# Altium footprint library TINYMODULE-V3.PcbLib: 27 footprints (part 1 of 2)
Each footprint in its own frame and in the unit in brackets; x right, y up, seen from the top. Pads: shape width x height; smd on the part's side, far side on the other; paste and mask are expansions set on the pad; w line width, h text height; cw(c..) or ccw(c..) is an arc to the next point about the centre after c.
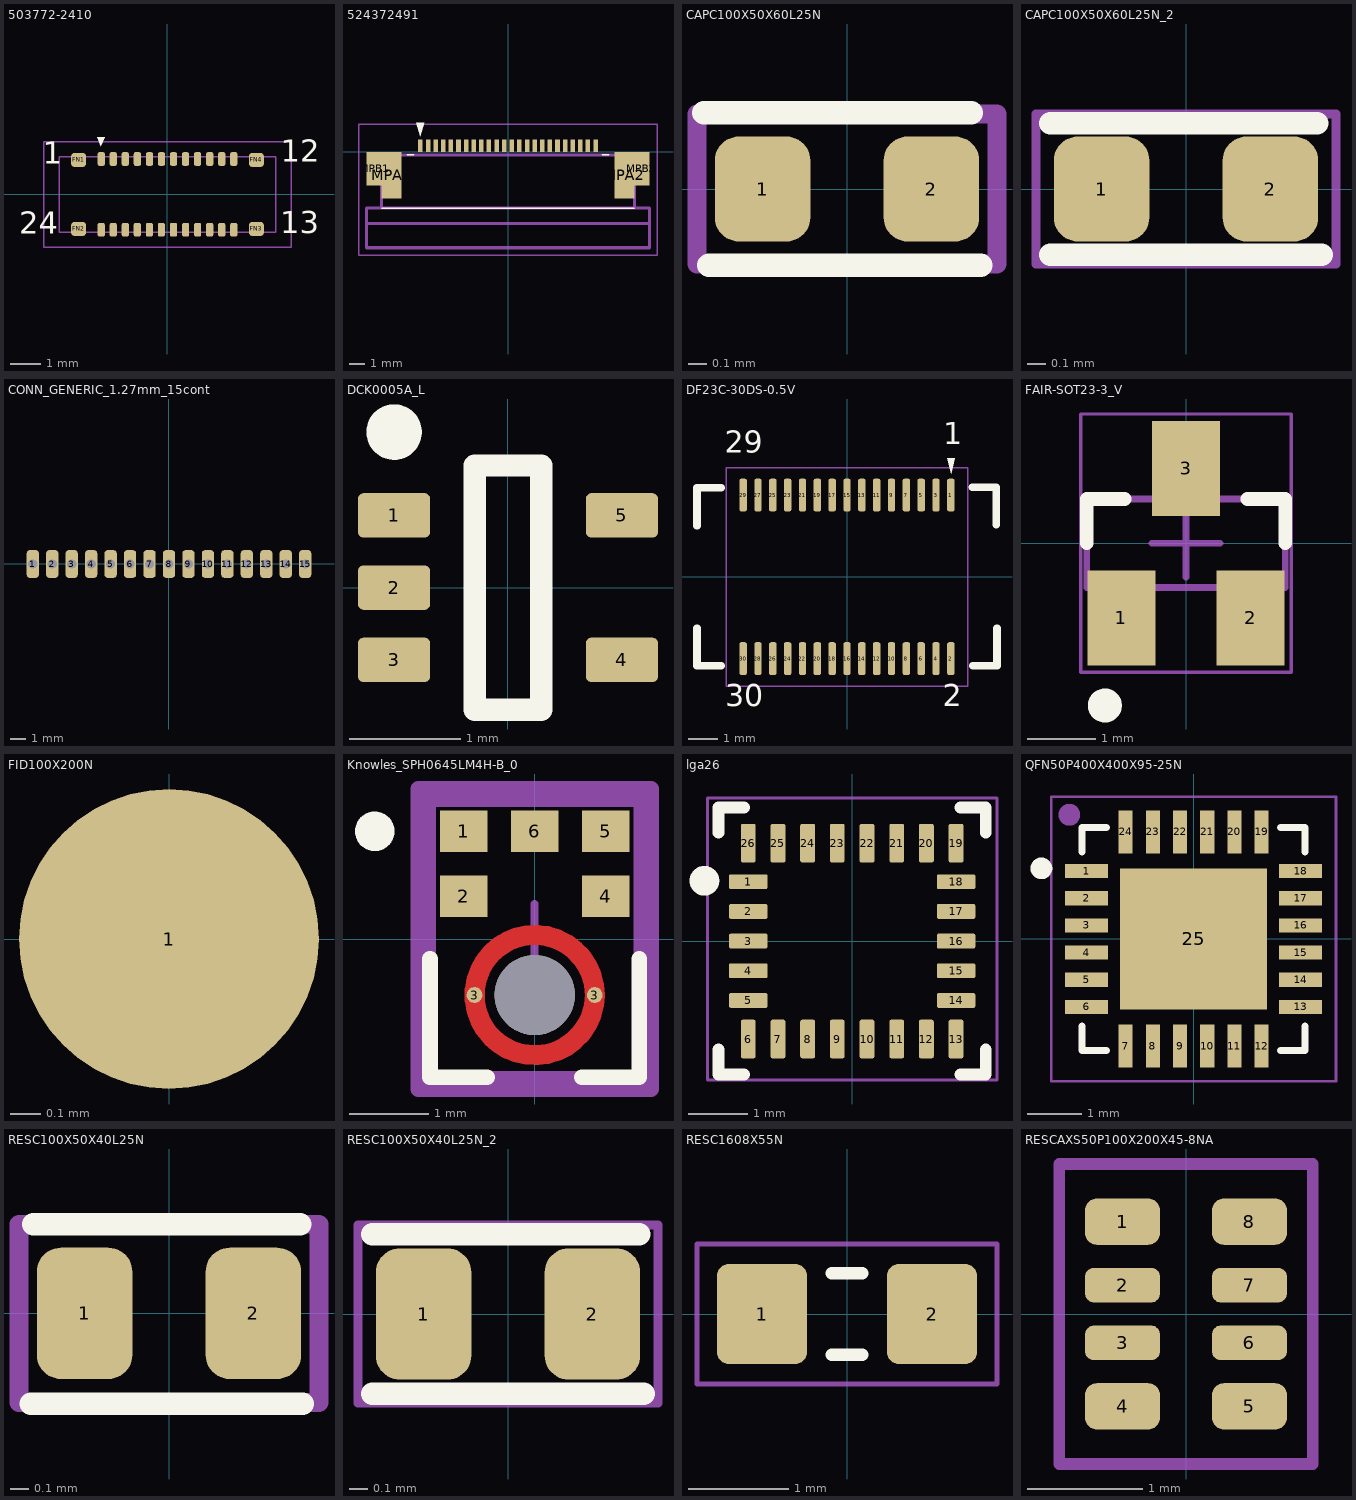
[diagram p0: the footprints below, top view; thin cyan lines are the x and y axes]

## 503772-2410 [mm]
pads (28):
  rrect50% 0.24x0.45 smd: 1(-2.2,1.175) 2(-1.8,1.175) 3(-1.4,1.175) 4(-1,1.175) 5(-0.6,1.175) 6(-0.2,1.175) 7(0.2,1.175) 8(0.6,1.175) 9(1,1.175) 10(1.4,1.175) 11(1.8,1.175) 12(2.2,1.175) 13(2.2,-1.175) 14(1.8,-1.175) 15(1.4,-1.175) 16(1,-1.175) 17(0.6,-1.175) 18(0.2,-1.175) 19(-0.2,-1.175) 20(-0.6,-1.175) 21(-1,-1.175) 22(-1.4,-1.175) 23(-1.8,-1.175) 24(-2.2,-1.175)
  rrect50% 0.5x0.47 smd: FN1(-2.95,1.145) FN2(-2.95,-1.145) FN3(2.95,-1.145) FN4(2.95,1.145)
Top Overlay:
  region: -2.21,1.6 -2.083,1.905 -2.337,1.905
  text "24" at -4.929,-1.549 h1.27
  text "13" at 3.751,-1.535 h1.27
  text "12" at 3.759,0.838 h1.27
  text "1" at -4.14,0.762 h1.27
Mechanical 1:
  lines w0.05: -3.6,-1.25 -3.6,1.25 3.6,1.25 3.6,-1.25 -3.6,-1.25
Mechanical 16:
  lines w0.05: -4.1,-1.75 4.1,-1.75 4.1,1.75 -4.1,1.75 -4.1,-1.75
  text ".Designator" at 0.55,0.22 h0.55
3D body "5037722410.stp": height 0.66, standoff 0, extent -3.6,-1.25 3.6,1.25

## 524372491 [mm]
pads (28):
  rect 0.3x0.8 smd: 1(-5.75,0.4) 2(-5.25,0.4) 3(-4.75,0.4) 4(-4.25,0.4) 5(-3.75,0.4) 6(-3.25,0.4) 7(-2.75,0.4) 8(-2.25,0.4) 9(-1.75,0.4) 10(-1.25,0.4) 11(-0.75,0.4) 12(-0.25,0.4) 13(0.25,0.4) 14(0.75,0.4) 15(1.25,0.4) 16(1.75,0.4) 17(2.25,0.4) 18(2.75,0.4) 19(3.25,0.4) 20(3.75,0.4) 21(4.25,0.4) 22(4.75,0.4) 23(5.25,0.4) 24(5.75,0.4)
  rect 1.3x3.05 smd: MPA1(-7.65,-1.525) MPA2(7.65,-1.525)
  rect 1.1x2.2 smd: MPB1(-8.75,-1.1) MPB2(8.75,-1.1)
Top Overlay:
  region: -5.766,1.029 -5.512,1.918 -6.02,1.918
  lines w0.1: -8.3,-3.7 8.3,-3.7 ; -6.6,-0.2 -6.2,-0.2 ; 6.2,-0.2 6.6,-0.2
Mechanical 13:
  lines w0.2: -9.3,-4.7 -9.3,-6.3 9.3,-6.3 9.3,-4.7 ; -9.3,-4.7 9.3,-4.7 ; -9.3,-4.7 -9.3,-3.7 9.3,-3.7 9.3,-4.7 ; -9.3,-4.7 9.3,-4.7 ; -8.3,-3.7 -8.3,-0.2 8.3,-0.2 8.3,-3.7 -8.3,-3.7
Mechanical 15:
  lines w0.1: -9.8,-6.8 -9.8,1.8 9.8,1.8 9.8,-6.8 -9.8,-6.8
3D body "52437-2491.stp": height 2.1, standoff 0, extent -9.3,-6.3 9.3,0.77

## CAPC100X50X60L25N [mm]
height 0.6
pads (2):
  rrect50% 0.51x0.56 smd mask+0.05: 1(-0.45,0) 2(0.45,0)
Top Overlay:
  lines w0.127: -0.762,0.406 0.663,0.406 ; -0.737,-0.406 0.713,-0.406
Mechanical 16:
  lines w0.1: -0.8,-0.4 0.8,-0.4 0.8,0.4 -0.8,0.4 -0.8,-0.4
  text ".Designator" at -2.343,-1.07 h0.8
3D body "C0402.STEP": height 0.36, standoff 0, extent -0.5,-0.265 0.5,0.265

## CAPC100X50X60L25N_2 [mm]
pads (2):
  rrect50% 0.51x0.56 smd mask+0.05: 1(-0.45,0) 2(0.45,0)
Top Overlay:
  lines w0.12: -0.725,-0.35 0.725,-0.35 ; -0.725,0.35 0.7,0.35
Mechanical 16:
  lines w0.05: -0.8,-0.4 -0.8,0.4 0.8,0.4 0.8,-0.4 -0.8,-0.4
  text ".Designator" at -0.7,-0.3 h0.55
3D body "C0402.STEP": height 0.36, standoff 0, extent -0.5,-0.265 0.5,0.265

## CONN_GENERIC_1.27mm_15cont [mm]
height 2.2
pads (15):
  rrect50% 0.8x1.8 / inner rrect50% 0x0 / far side rrect50% 0.65x1.8 hole 0.6: 1(-8.89,0) 2(-7.62,0) 3(-6.35,0) 4(-5.08,0) 5(-3.81,0) 6(-2.54,0) 7(-1.27,0) 8(0,0) 9(1.27,0) 10(2.54,0) 11(3.81,0) 12(5.08,0) 13(6.35,0) 14(7.62,0) 15(8.89,0)
Mechanical 16:
  text ".Designator" at 1.18,-0.6 h0.55

## DCK0005A_L [mm] "SOT23, 5-Leads, Body 2.15x1.4mm, Pitch 0.65mm, IPC High Density"
height 1.1
pads (5):
  rrect25% 0.65x0.4 smd: 1(-1.025,0.65) 2(-1.025,0) 3(-1.025,-0.65) 4(1.025,-0.65) 5(1.025,0.65)
Top Overlay:
  circle w0.25: c-1.025,1.4 r0.125
  lines w0.2: -0.3,-1.1 0.3,-1.1 0.3,1.1 -0.3,1.1 -0.3,-1.1
Mechanical 1:
  text ".Designator" at -0.635,-0.127 h0.3
3D body "DCK0005AakaMAA05A.stp": height 0.94, standoff -0.01, extent -1.14,-1 1.14,1

## DF23C-30DS-0.5V [mm]
pads (30):
  rrect50% 0.25x1.1 smd mask+0.055: 1(3.5,2.755) 2(3.5,-2.755) 3(3,2.755) 4(3,-2.755) 5(2.5,2.755) 6(2.5,-2.755) 7(2,2.755) 8(2,-2.755) 9(1.5,2.755) 10(1.5,-2.755) 11(1,2.755) 12(1,-2.755) 13(0.5,2.755) 14(0.5,-2.755) 15(0,2.755) 16(0,-2.755) 17(-0.5,2.755) 18(-0.5,-2.755) 19(-1,2.755) 20(-1,-2.755) 21(-1.5,2.755) 22(-1.5,-2.755) 23(-2,2.755) 24(-2,-2.755) 25(-2.5,2.755) 26(-2.5,-2.755) 27(-3,2.755) 28(-3,-2.755) 29(-3.5,2.755) 30(-3.5,-2.755)
Top Overlay:
  region: 3.505,3.48 3.632,3.988 3.378,3.988
  lines w0.254: -5.055,-1.727 -5.055,-2.997 -4.242,-2.997 ; -5.055,1.727 -5.055,2.997 -4.242,2.997 ; 4.216,3.023 5.029,3.023 5.029,1.753 ; 4.242,-2.997 5.055,-2.997 5.055,-1.727
  text "1" at 3.251,4.216 h1.27
  text "2" at 3.225,-4.623 h1.27
  text "29" at -4.116,3.926 h1.27
  text "30" at -4.096,-4.609 h1.27
Mechanical 16:
  lines w0.05: -4.064,-3.683 4.064,-3.683 4.064,3.683 -4.064,3.683 -4.064,-3.683
  text ".Designator" at -0.25,0.7 h0.8
3D body "DF23C-30DS-0.5V.stp": height 1.51, standoff 0.06, extent -5.05,-3 5.05,3

## FAIR-SOT23-3_V [mm] "SOT23, 3-Leads, Body 2.92x1.3mm, Pitch 0.95mm"
height 1.2
pads (3):
  rect 1x1.4 smd: 1(-0.95,-1.1) 2(0.95,-1.1) 3(0,1.1)
Top Overlay:
  circle w0.25: c-1.194,-2.388 r0.125
  lines w0.2: -1.46,0 -1.46,0.65 -0.9,0.65 ; 0.9,0.65 1.46,0.65 1.46,0
Mechanical 13:
  lines w0.1: -1.46,-0.65 1.46,-0.65 1.46,0.65 -1.46,0.65 -1.46,-0.65
Mechanical 15:
  lines w0.05: -1.55,-1.9 1.55,-1.9 1.55,1.9 -1.55,1.9 -1.55,-1.9
  lines w0.1: -0.5,0 0.5,0 ; 0,-0.5 0,0.5
3D body "SOT23-3 (2).step": height 1.1, standoff 0, extent -1.5,-1.25 1.5,1.25

## FID100X200N [mm]
height 0.8
pads (1):
  round 1 smd paste-0.51 mask+0.5: 1(0,0)

## Knowles_SPH0645LM4H-B_0 [mm]
pads (8):
  rect 0.6x0.522 smd paste+0 mask+0: 1(-0.9,1.364) 2(-0.9,0.542) 4(0.9,0.542) 5(0.9,1.364) 6(0,1.364)
  round 0.2 smd: 3(-0.762,-0.71) 3(0.762,-0.71)
  round 1.016 hole 1.016 unplated mask+0: ""(0,-0.71)
Top Layer:
  circle w0.254: c0,-0.71 r0.762
Top Overlay:
  circle w0.25: c-2.026,1.364 r0.125
  lines w0.2: -1.325,-0.25 -1.325,-1.75 -0.6,-1.75 ; 0.6,-1.75 1.325,-1.75 1.325,-0.25
Top Paste:
  circle w0.254: c0,-0.71 r0.762
Top Solder:
  circle w0.508: c0,-0.71 r0.762
Bottom Solder:
  circle w0.254: c0,-0.71 r0.635
Mechanical 12:
  lines w0.15: -1.325,-1.75 -1.325,1.75 1.325,1.75 1.325,-1.75 -1.325,-1.75
Mechanical 15:
  lines w0.1: -0.443,0 0.443,0 ; 0,-0.443 0,0.443
  lines w0.2: -1.475,-1.9 -1.475,1.9 1.475,1.9 1.475,-1.9 -1.475,-1.9
Mechanical 16:
  lines w0.2: -1.475,-1.9 -1.475,1.9 1.475,1.9 1.475,-1.9 -1.475,-1.9
  text ".Designator" at 0,0 h1
3D body "sph0645lm4h-b.stp": height 1.23, standoff 0.25, extent -1.325,-1.75 1.325,1.75

## lga26 [mm]
height 2.2
pads (26):
  rrect25% 0.65x0.25 smd: 1(-1.75,1) 2(-1.75,0.5) 3(-1.75,0) 4(-1.75,-0.5) 5(-1.75,-1) 14(1.75,-1) 15(1.75,-0.5) 16(1.75,0) 17(1.75,0.5) 18(1.75,1)
  rrect25% 0.25x0.65 smd: 6(-1.75,-1.65) 7(-1.25,-1.65) 8(-0.75,-1.65) 9(-0.25,-1.65) 10(0.25,-1.65) 11(0.75,-1.65) 12(1.25,-1.65) 13(1.75,-1.65) 19(1.75,1.65) 20(1.25,1.65) 21(0.75,1.65) 22(0.25,1.65) 23(-0.25,1.65) 24(-0.75,1.65) 25(-1.25,1.65) 26(-1.75,1.65)
Top Overlay:
  circle w0.25: c-2.489,1.016 r0.125
  lines w0.2: -2.25,-1.825 -2.25,-2.25 -1.825,-2.25 ; -2.25,1.825 -2.25,2.25 -1.825,2.25 ; 1.825,-2.25 2.25,-2.25 2.25,-1.825 ; 1.825,2.25 2.25,2.25 2.25,1.825
Mechanical 16:
  lines w0.05: -2.44,-2.34 -2.44,2.41 2.44,2.41 2.44,-2.34 -2.44,-2.34
  text ".Designator" at 0.32,-0.42 h0.55
3D body "cam.step": height 2.19, standoff 0, extent -2.05,-1.95 2.05,1.95

## QFN50P400X400X95-25N [mm]
pads (25):
  rect 0.79x0.26 smd: 1(-1.97,1.25) 2(-1.97,0.75) 3(-1.97,0.25) 4(-1.97,-0.25) 5(-1.97,-0.75) 6(-1.97,-1.25) 13(1.97,-1.25) 14(1.97,-0.75) 15(1.97,-0.25) 16(1.97,0.25) 17(1.97,0.75) 18(1.97,1.25)
  rect 0.26x0.79 smd: 7(-1.25,-1.97) 8(-0.75,-1.97) 9(-0.25,-1.97) 10(0.25,-1.97) 11(0.75,-1.97) 12(1.25,-1.97) 19(1.25,1.97) 20(0.75,1.97) 21(0.25,1.97) 22(-0.25,1.97) 23(-0.75,1.97) 24(-1.25,1.97)
  rect 2.7x2.6 smd: 25(0,0)
Top Overlay:
  circle w0.2: c-2.8,1.3 r0.1
  lines w0.127: -2.05,-1.6 -2.05,-2.05 -1.6,-2.05 ; -2.05,1.6 -2.05,2.05 -1.6,2.05 ; 1.6,-2.05 2.05,-2.05 2.05,-1.6 ; 1.6,2.05 2.05,2.05 2.05,1.6
Top Paste:
  region: -1.091,1.04 -0.13,1.04 -0.13,0.13 -1.091,0.13
  region: 0.13,1.04 1.09,1.04 1.09,0.13 0.13,0.13
  region: 0.13,-0.13 1.09,-0.13 1.09,-1.04 0.13,-1.04
  region: -1.091,-0.13 -0.13,-0.13 -0.13,-1.041 -1.091,-1.041
Mechanical 16:
  circle w0.2: c-2.286,2.286 r0.1
  lines w0.05: -2.62,-2.62 2.62,-2.62 2.62,2.62 -2.62,2.62 -2.62,-2.62
  text ".Designator" at 0.15,0.7 h0.55
3D body "QFN50P400X400X80-25N.STEP": height 0.8, standoff 0, extent -2.045,-2.045 2.045,2.045

## RESC100X50X40L25N [mm]
height 0.4
pads (2):
  rrect50% 0.51x0.7 smd mask+0.05: 1(-0.45,0) 2(0.45,0)
Top Overlay:
  lines w0.12: -0.737,-0.483 0.713,-0.483 ; -0.725,0.476 0.7,0.476
Mechanical 16:
  lines w0.1: -0.8,-0.475 -0.8,0.475 0.8,0.475 0.8,-0.475 -0.8,-0.475
  text ".Designator" at -1.2,0.2 h0.8
3D body "R0402.STEP": height 0.34, standoff 0, extent -0.52,-0.3 0.52,0.3

## RESC100X50X40L25N_2 [mm]
pads (2):
  rrect50% 0.51x0.7 smd mask+0.05: 1(-0.45,0) 2(0.45,0)
Top Overlay:
  lines w0.12: -0.725,-0.425 0.725,-0.425 ; -0.725,0.425 0.7,0.425
Mechanical 16:
  lines w0.05: -0.8,-0.475 0.8,-0.475 0.8,0.475 -0.8,0.475 -0.8,-0.475
  text ".Designator" at -0.38,-0.28 h0.55
3D body "R0402.STEP": height 0.34, standoff 0, extent -0.52,-0.3 0.52,0.3

## RESC1608X55N [mm] "Chip Resistor, Body 1.6x0.8mm, EIA 0603, IPC Medium Density"
height 0.55
pads (2):
  rrect25% 0.9x1 smd: 1(-0.85,0) 2(0.85,0)
Top Overlay:
  lines w0.127: -0.152,-0.406 0.152,-0.406 ; -0.152,0.406 0.152,0.406
Mechanical 16:
  lines w0.05: -1.5,-0.7 1.5,-0.7 1.5,0.7 -1.5,0.7 -1.5,-0.7
  text ".Designator" at -0.55,-0.35 h0.55
3D body "RES 0603 (1608 metric).STEP": height 0.54, standoff -0.01, extent -0.875,-0.475 0.875,0.475

## RESCAXS50P100X200X45-8NA [mm] "2 Side, Convex"
height 0.45
pads (8):
  rrect50% 0.65x0.4 smd: 1(-0.55,0.8) 4(-0.55,-0.8) 5(0.55,-0.8) 8(0.55,0.8)
  rrect50% 0.65x0.3 smd: 2(-0.55,0.25) 3(-0.55,-0.25) 6(0.55,-0.25) 7(0.55,0.25)
Mechanical 16:
  lines w0.1: -1.1,-1.3 1.1,-1.3 1.1,1.3 -1.1,1.3 -1.1,-1.3
  text ".Designator" at -1.2,0.2 h0.8
3D body "User Library-YC124-1.STEP": height 0.45, standoff 0, extent -0.5,-1 0.5,1